# Altium footprint library 1N4148.PcbLib: 1 footprints
Each footprint in its own frame and in the unit in brackets; x right, y up, seen from the top. Pads: shape width x height; smd on the part's side, far side on the other; paste and mask are expansions set on the pad; w line width, h text height; cw(c..) or ccw(c..) is an arc to the next point about the centre after c.
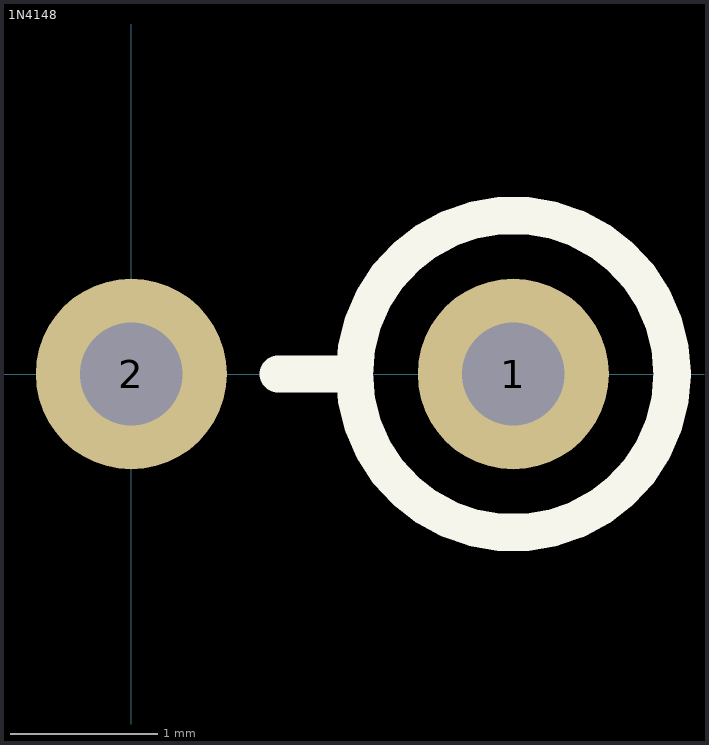
[diagram p0: the footprint, top view; thin cyan lines are the x and y axes]

## 1N4148 [mm] "1N4148"
height 10
pads (2):
  round 1.3 hole 0.7: 1(2.6,0) 2(0,0)
Top Overlay:
  circle w0.254: c2.6,0 r1.082
  lines w0.254: 1,0 1.5,0
3D body: height 5.52, standoff -1, extent -0.19,-0.85 3.39,0.8